# Altium integrated library MBR10100G.IntLib: 1 symbol
Pins are listed as number, name and electrical type; pins without a type are passive.

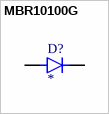
[diagram p0: symbol MBR10100G]

## MBR10100G
designator D?
Diode Schottky 100 V 10A Through Hole TO-220-2; MP: MBR10100G; MF: ON Semiconductor; Package: TO-220-2 ON Semiconductor; Check_prices: https://www.snapeda.com/parts/MBR10100G/Onsemi/view-part/?ref=eda; Purchase-URL: https://pricing.snapeda.com/search/part/MBR10100G/?ref=eda; Value: *; Availability: In Stock; Price: None; SnapEDA_Link: https://www.snapeda.com/parts/MBR10100G/Onsemi/view-part/?ref=snap
footprint TO508P1050X476X2020-2
pins: 1 C, 3 A